# Altium footprint library divers.PCBLIB: 26 footprints (part 1 of 2)
Each footprint in its own frame and in the unit in brackets; x right, y up, seen from the top. Pads: shape width x height; smd on the part's side, far side on the other; paste and mask are expansions set on the pad; w line width, h text height; cw(c..) or ccw(c..) is an arc to the next point about the centre after c.
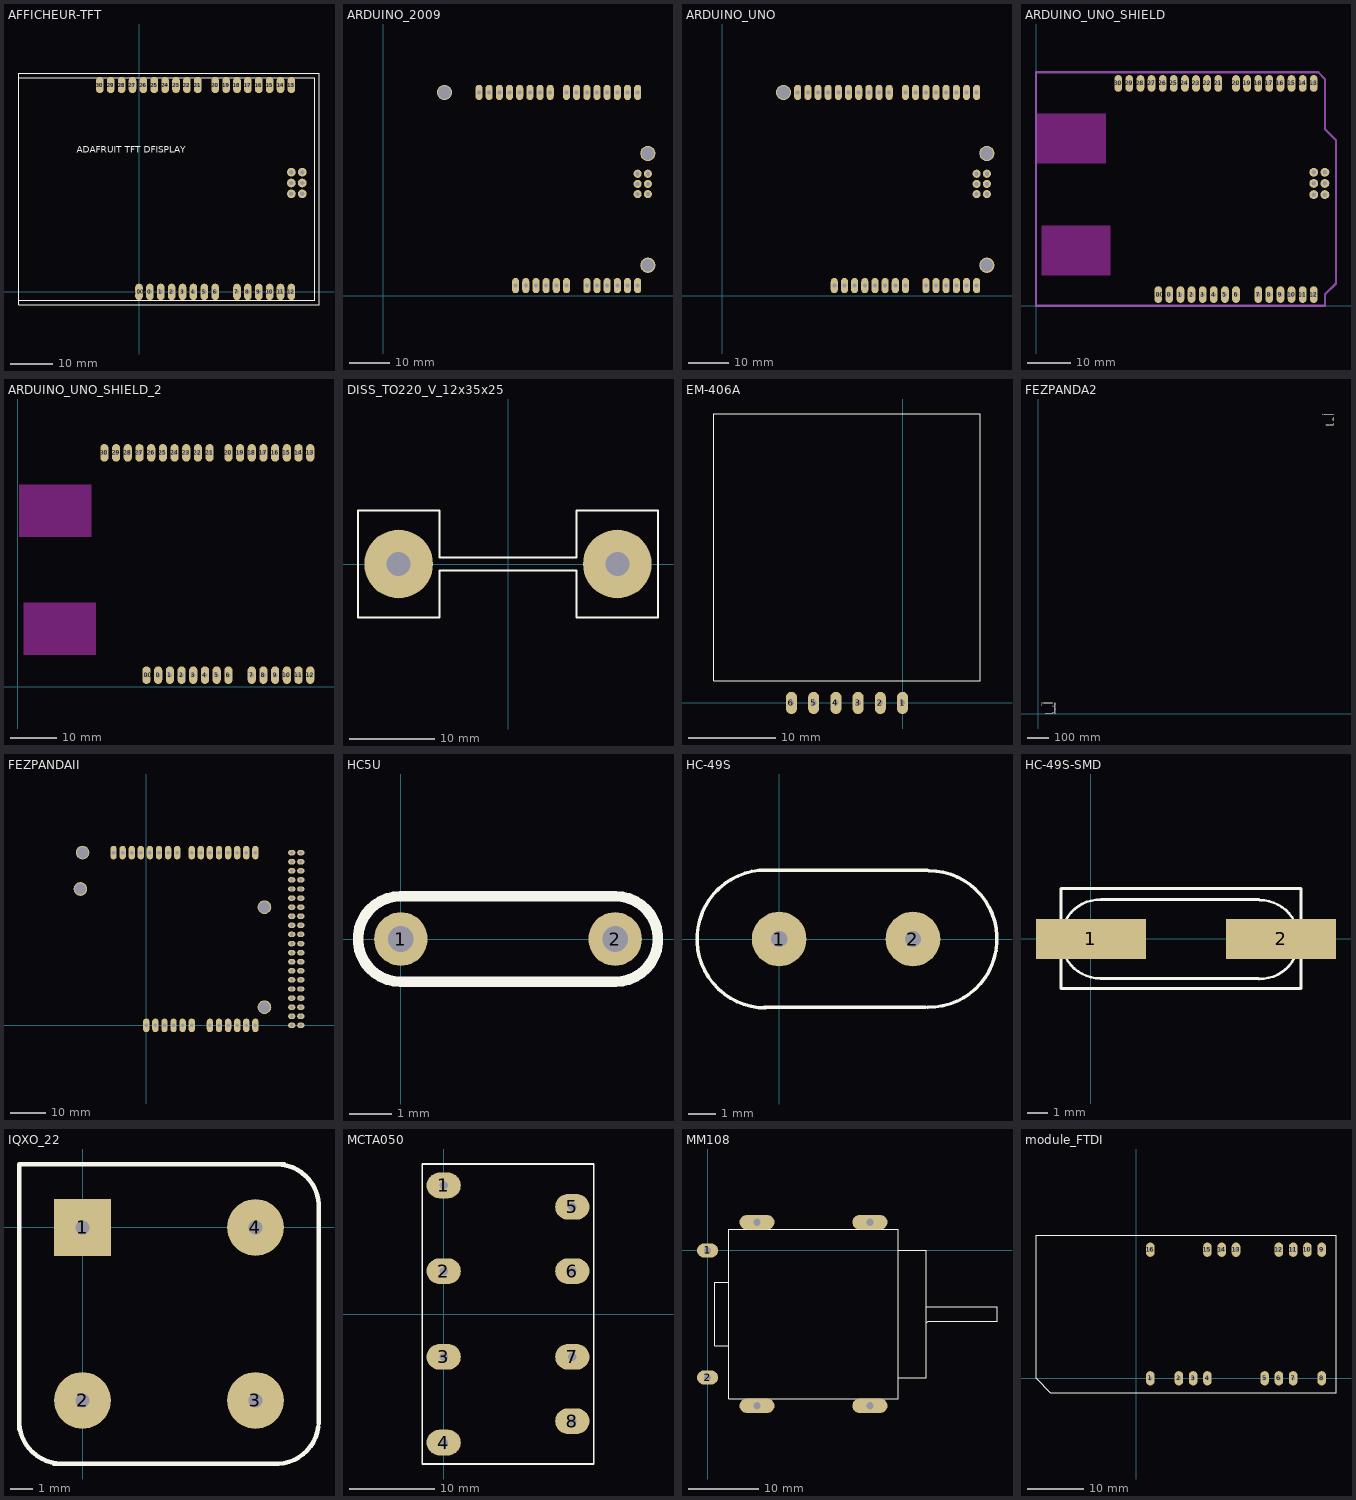
[diagram p0: the footprints below, top view; thin cyan lines are the x and y axes]

## AFFICHEUR-TFT [mil]
pads (38):
  oval 70x150 hole 40: 0(100,0) 1(200,0) 2(300,0) 3(400,0) 4(500,0) 5(600,0) 6(700,0) 7(900,0) 8(1000,0) 9(1100,0) 10(1200,0) 11(1300,0) 12(1400,0) 13(1400,1900) 14(1300,1900) 15(1200,1900) 16(1100,1900) 17(1000,1900) 18(900,1900) 19(800,1900) 20(700,1900) 21(540,1900) 22(440,1900) 23(340,1900) 24(240,1900) 25(140,1900) 26(40,1900) 27(-60,1900) 28(-160,1900) 29(-260,1900) 30(-360,1900) 100(0,0)
  round 80 hole 40: 31(1400,1100) 32(1500,1100) 33(1400,1000) 34(1500,1000) 35(1400,900) 36(1500,900)
Top Overlay:
  lines w7.87: -1102.36,-78.74 1614.17,-78.74 1614.17,1968.5 -1102.36,1968.5 ; -1102.36,-118.11 1653.54,-118.11 1653.54,46.46 1653.54,1336.46 1653.54,2007.87 39.37,2007.87 -252.76,2007.87 -1102.36,2007.87 -1102.36,-118.11
  text "ADAFRUIT TFT DFISPLAY" at -570.87,1279.53 h60

## ARDUINO_2009 [mil]
pads (37):
  oval 70x150 hole 40: 1(1300,100) 2(1400,100) 3(1500,100) 4(1600,100) 5(1700,100) 6(1800,100) 7(2000,100) 8(2100,100) 9(2200,100) 10(2300,100) 11(2400,100) 12(2500,100) 13(2500,2000) 14(2400,2000) 15(2300,2000) 16(2200,2000) 17(2100,2000) 18(2000,2000) 19(1900,2000) 20(1800,2000) 21(1640,2000) 22(1540,2000) 23(1440,2000) 24(1340,2000) 25(1240,2000) 26(1140,2000) 27(1040,2000) 28(940,2000)
  round 80 hole 40: 29(2500,1200) 30(2600,1200) 31(2500,1100) 32(2600,1100) 33(2500,1000) 34(2600,1000)
  round 150 hole 126: ""(600,2000) ""(2600,300) ""(2600,1400)
Bottom Overlay:
  lines w20: 0,1270 -250,1270 -250,1730 0,1730 ; 0,0 2600,0 2600,100 2700,200 2700,1490 2600,1590 2600,2040 2540,2100 1100,2100 800,2100 0,2100 0,0

## ARDUINO_UNO [mil]
pads (41):
  oval 70x150 hole 40: 0(1200,100) 1(1300,100) 2(1400,100) 3(1500,100) 4(1600,100) 5(1700,100) 6(1800,100) 7(2000,100) 8(2100,100) 9(2200,100) 10(2300,100) 11(2400,100) 12(2500,100) 13(2500,2000) 14(2400,2000) 15(2300,2000) 16(2200,2000) 17(2100,2000) 18(2000,2000) 19(1900,2000) 20(1800,2000) 21(1640,2000) 22(1540,2000) 23(1440,2000) 24(1340,2000) 25(1240,2000) 26(1140,2000) 27(1040,2000) 28(940,2000) 29(840,2000) 30(740,2000) 100(1100,100)
  round 80 hole 40: 31(2500,1200) 32(2600,1200) 33(2500,1100) 34(2600,1100) 35(2500,1000) 36(2600,1000)
  round 150 hole 126: ""(600,2000) ""(2600,300) ""(2600,1400)
Bottom Overlay:
  lines w20: 0,1270 -250,1270 -250,1730 0,1730 ; 0,0 0,2100 800,2100 1100,2100 2540,2100 2600,2040 2600,1590 2700,1490 2700,200 2600,100 2600,0 0,0

## ARDUINO_UNO_SHIELD [mil]
pads (38):
  oval 70x150 hole 40: 0(1200,100) 1(1300,100) 2(1400,100) 3(1500,100) 4(1600,100) 5(1700,100) 6(1800,100) 7(2000,100) 8(2100,100) 9(2200,100) 10(2300,100) 11(2400,100) 12(2500,100) 13(2500,2000) 14(2400,2000) 15(2300,2000) 16(2200,2000) 17(2100,2000) 18(2000,2000) 19(1900,2000) 20(1800,2000) 21(1640,2000) 22(1540,2000) 23(1440,2000) 24(1340,2000) 25(1240,2000) 26(1140,2000) 27(1040,2000) 28(940,2000) 29(840,2000) 30(740,2000) 100(1100,100)
  round 80 hole 40: 31(2500,1200) 32(2600,1200) 33(2500,1100) 34(2600,1100) 35(2500,1000) 36(2600,1000)
Keep-Out Layer:
  rectangle: 10,1280 630,1730
  rectangle: 50,270 670,720
Mechanical 1:
  lines w20: 0,0 2600,0 2600,100 2700,200 2700,1490 2600,1590 2600,2040 2540,2100 1100,2100 800,2100 0,2100 0,0

## ARDUINO_UNO_SHIELD_2 [mil]
pads (32):
  oval 70x150 hole 40: 0(1200,100) 1(1300,100) 2(1400,100) 3(1500,100) 4(1600,100) 5(1700,100) 6(1800,100) 7(2000,100) 8(2100,100) 9(2200,100) 10(2300,100) 11(2400,100) 12(2500,100) 13(2500,2000) 14(2400,2000) 15(2300,2000) 16(2200,2000) 17(2100,2000) 18(2000,2000) 19(1900,2000) 20(1800,2000) 21(1640,2000) 22(1540,2000) 23(1440,2000) 24(1340,2000) 25(1240,2000) 26(1140,2000) 27(1040,2000) 28(940,2000) 29(840,2000) 30(740,2000) 100(1100,100)
Keep-Out Layer:
  rectangle: 50,270 670,720
  rectangle: 10,1280 630,1730

## DISS_TO220_V_12x35x25 [mm]
pads (2):
  round 8 hole 2.8: ""(-12.75,0) ""(12.75,0)
Top Overlay:
  lines w0.2: -17.5,-6.25 -8,-6.25 -8,-0.75 -7.25,-0.75 7.25,-0.75 8,-0.75 8,-6.25 17.5,-6.25 17.5,6.25 8,6.25 8,0.75 7.25,0.75 -7.25,0.75 -8,0.75 -8,6.25 -17.5,6.25 -17.5,-6.25

## EM-406A [mil]
pads (6):
  oval 50x100 hole 24: 1(0,0) 2(-100,0) 3(-200,0) 4(-300,0) 5(-400,0) 6(-500,0)
Top Overlay:
  lines w3.94: -850,100 -550,100 -250,100 350,100 350,1300 -850,1300 -850,100

## FEZPANDA2 [mil]
pads (109):
  oval 70x150 hole 40: 1(1300,100) 1(51900,52100) 2(1400,100) 2(52000,52100) 3(1500,100) 3(52100,52100) 4(1600,100) 4(52200,52100) 5(1700,100) 5(52300,52100) 6(1800,100) 6(52400,52100) 7(2000,100) 7(52600,52100) 8(2100,100) 8(52700,52100) 9(2200,100) 9(52800,52100) 10(2300,100) 10(52900,52100) 11(2400,100) 11(53000,52100) 12(2500,100) 12(53100,52100) 13(2500,2000) 13(53100,54000) 14(2400,2000) 14(53000,54000) 15(2300,2000) 15(52900,54000) 16(2200,2000) 16(52800,54000) 17(2100,2000) 17(52700,54000) 18(2000,2000) 18(52600,54000) 19(1900,2000) 19(52500,54000) 20(1800,2000) 20(52400,54000) 21(1640,2000) 21(52240,54000) 22(1540,2000) 22(52140,54000) 23(1440,2000) 23(52040,54000) 24(1340,2000) 24(51940,54000) 25(1240,2000) 25(51840,54000) 26(1140,2000) 26(51740,54000) 27(1040,2000) 27(51640,54000) 28(940,2000) 28(51540,54000)
  oval 80x60 hole 36: 29(2900,2000) 30(3000,2000)
  round 80 hole 40: 29(53100,53200) 30(53200,53200) 31(53100,53100) 32(53200,53100) 33(53100,53000) 34(53200,53000)
  oval 80x60 hole 40: 31(2900,1900) 32(3000,1900) 33(2900,1800) 34(3000,1800) 35(2900,1700) 36(3000,1700) 37(2900,1600) 38(3000,1600) 39(2900,1500) 40(3000,1500) 41(2900,1400) 42(3000,1400) 43(2900,1300) 44(3000,1300) 45(2900,1200) 46(3000,1200) 47(2900,1100) 48(3000,1100) 49(2900,1000) 50(3000,1000) 51(2900,900) 52(3000,900) 53(2900,800) 54(3000,800) 55(2900,700) 56(3000,700) 57(2900,600) 58(3000,600) 59(2900,500) 60(3000,500) 61(2900,400) 62(3000,400) 63(2900,300) 64(3000,300) 65(2900,200) 66(3000,200) 67(2900,100) 68(3000,100)
  round 150 hole 126: ""(575,1600) ""(600,2000) ""(2600,300) ""(2600,1400) ""(51200,54000) ""(53200,52300) ""(53200,53400)
Bottom Overlay:
  lines w10: 0,1300 -100,1300 -100,1700 0,1700 ; 600,0 600,700 1200,700 1200,0 ; -100,200 -100,600 500,600 500,200 0,200 -100,200
  lines w20: 3200,1990 3200,700 3200,100 3100,0 0,0 0,2100 800,2100 1600,2100 3100,2100 3200,2000 ; 50600,53270 50350,53270 50350,53730 50600,53730 ; 50600,52000 50600,54100 51400,54100 51700,54100 53140,54100 53200,54040 53200,53590 53300,53490 53300,52200 53200,52100 53200,52000 50600,52000

## FEZPANDAII [mil]
pads (72):
  oval 70x150 hole 40: 1(0,0) 2(100,0) 3(200,0) 4(300,0) 5(400,0) 6(500,0) 7(700,0) 8(800,0) 9(900,0) 10(1000,0) 11(1100,0) 12(1200,0) 13(1200,1900) 14(1100,1900) 15(1000,1900) 16(900,1900) 17(800,1900) 18(700,1900) 19(600,1900) 20(500,1900) 21(340,1900) 22(240,1900) 23(140,1900) 24(40,1900) 25(-60,1900) 26(-160,1900) 27(-260,1900) 28(-360,1900)
  oval 80x60 hole 36: 29(1600,1900) 30(1700,1900)
  oval 80x60 hole 40: 31(1600,1800) 32(1700,1800) 33(1600,1700) 34(1700,1700) 35(1600,1600) 36(1700,1600) 37(1600,1500) 38(1700,1500) 39(1600,1400) 40(1700,1400) 41(1600,1300) 42(1700,1300) 43(1600,1200) 44(1700,1200) 45(1600,1100) 46(1700,1100) 47(1600,1000) 48(1700,1000) 49(1600,900) 50(1700,900) 51(1600,800) 52(1700,800) 53(1600,700) 54(1700,700) 55(1600,600) 56(1700,600) 57(1600,500) 58(1700,500) 59(1600,400) 60(1700,400) 61(1600,300) 62(1700,300) 63(1600,200) 64(1700,200) 65(1600,100) 66(1700,100) 67(1600,0) 68(1700,0)
  round 150 hole 126: ""(-725,1500) ""(-700,1900) ""(1300,200) ""(1300,1300)
Bottom Overlay:
  lines w10: -1300,1200 -1400,1200 -1400,1600 -1300,1600 ; -700,-100 -700,600 -100,600 -100,-100 ; -1400,100 -1300,100 -800,100 -800,500 -1400,500 -1400,100
  lines w20: 1900,1890 1900,600 1900,0 1800,-100 -1300,-100 -1300,2000 -500,2000 300,2000 1800,2000 1900,1900

## HC5U [mil]
pads (2):
  round 50 hole 24: 1(0,0) 2(200,0)
Top Overlay:
  lines w10: 0,-40 cw(c0,0) 0,40 200,40 cw(c200,0) 200,-40 0,-40

## HC-49S [mm]
pads (2):
  round 2 hole 0.6: 1(0,0) 2(4.9,0)
Top Overlay:
  lines w0.127: -0.55,-2.5 5.35,-2.5 ; -0.481,-2.525 cw(c-0.481,0) -0.45,2.525 5.425,2.525 ; 5.444,-2.501 ccw(c5.475,-0.001) 5.475,2.5

## HC-49S-SMD [mm] "SMD quartz crystal"
pads (2):
  rect 5.5x2 smd: 1(0,0) 2(9.5,0)
Top Overlay:
  lines w0.127: -1.5,-2.475 -1.5,2.525 10.5,2.525 10.5,-2.475 -1.5,-2.475 ; 0.475,-1.975 cw(c0.475,0) 0.5,1.975 8.4,1.975 8.425,1.95 cw(c8.425,-0.025) 8.4,-2 8.375,-1.975 0.475,-1.975

## IQXO_22 [mm]
pads (4):
  rect 2.5x2.5 hole 0.6: 1(0,0)
  round 2.5 hole 0.6: 2(0,-7.62) 3(7.62,-7.62) 4(7.62,0)
Top Overlay:
  lines w0.2: -2.794,-8.89 -2.794,2.786 ; -2.794,-8.636 ccw(c-0.91,-8.518) -1.159,-10.39 ; -2.786,2.794 8.89,2.794 ; -1.27,-10.414 8.636,-10.414 ccw(c8.518,-8.53) 10.39,-8.779 ; 8.779,2.77 cw(c8.53,0.898) 10.414,1.016 ; 10.414,-8.636 10.414,1.008

## MCTA050 [mm]
pads (8):
  oval 4x3 hole 1: 1(0,15) 2(0,5) 3(0,-5) 4(0,-15) 5(15,12.5) 6(15,5) 7(15,-5) 8(15,-12.5)
Top Overlay:
  lines w0.2: -2.5,-17.5 -2.5,17.5 17.5,17.5 17.5,-17.5 -2.5,-17.5

## MM108 [mm]
pads (6):
  oval 3x2 hole 1: 1(0,0) 2(0,-18)
  oval 5x2 hole 1: ""(7,-22) ""(7,4) ""(23,-22) ""(23,4)
Top Overlay:
  lines w0.1: 3,-13.5 1,-13.5 1,-4.5 3,-4.5 ; 27,-18 31,-18 31,0 27,0 ; 31,-10.25 31.25,-10 41,-10 41,-8 31,-8 ; 3,-21 3,3 27,3 27,-21 3,-21

## module_FTDI [mil]
pads (16):
  oval 60x100 hole 28: 1(100,0) 2(300,0) 3(400,0) 4(500,0) 5(900,0) 6(1000,0) 7(1100,0) 8(1300,0) 9(1300,900) 10(1200,900) 11(1100,900) 12(1000,900) 13(700,900) 14(600,900) 15(500,900) 16(100,900)
Top Overlay:
  lines w3.94: -700,0 -700,1000 1000,1000 1400,1000 1400,-100 -100,-100 -600,-100 -700,0